# Altium footprint library Wi-Fi.PcbLib: 1 footprints
Each footprint in its own frame and in the unit in brackets; x right, y up, seen from the top. Pads: shape width x height; smd on the part's side, far side on the other; paste and mask are expansions set on the pad; w line width, h text height; cw(c..) or ccw(c..) is an arc to the next point about the centre after c.
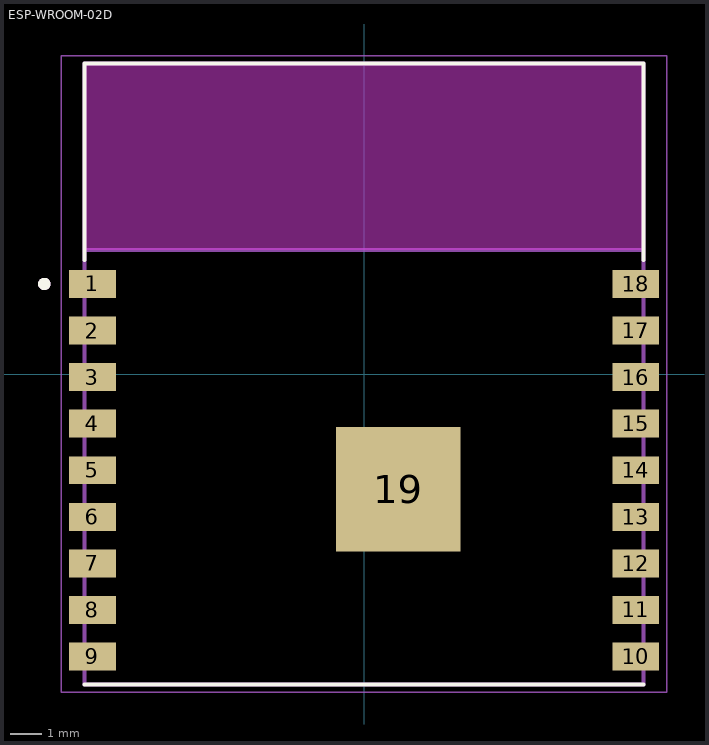
[diagram p0: the footprint, top view; thin cyan lines are the x and y axes]

## ESP-WROOM-02D [mm]
pads (19):
  rect 1.5x0.9 smd: 1(-8.75,2.9) 2(-8.75,1.4) 3(-8.75,-0.1) 4(-8.75,-1.6) 5(-8.75,-3.1) 6(-8.75,-4.6) 7(-8.75,-6.1) 8(-8.75,-7.6) 9(-8.75,-9.1) 10(8.75,-9.1) 11(8.75,-7.6) 12(8.75,-6.1) 13(8.75,-4.6) 14(8.75,-3.1) 15(8.75,-1.6) 16(8.75,-0.1) 17(8.75,1.4) 18(8.75,2.9)
  rect 4x4 smd paste-3: 19(1.1,-3.71)
Top Overlay:
  circle w0.2: c-10.3,2.9 r0.1
  lines w0.127: -9,-10 9,-10 ; -9,3.67 -9,10 9,10 9,3.67
Top Paste:
  region: 2.365,-4.975 -0.165,-4.975 -0.165,-2.445 2.365,-2.445
Keep-Out Layer:
  region: 9,4 -9,4 -9,10 9,10
  region: 9,4 -9,4 -9,10 9,10
  region: 9,4 -9,4 -9,10 9,10
Mechanical 13:
  circle w0.2: c-10.3,2.9 r0.1
  lines w0.127: -9,4 9,4 ; -9,4 -9,-10 9,-10 9,4 ; -9,4 -9,10 9,10 9,4
Mechanical 15:
  lines w0.05: -9.75,-10.25 -9.75,10.25 9.75,10.25 9.75,-10.25 -9.75,-10.25